# Altium schematic symbol library 10nF 1KV cap cer TH.SchLib: 1 symbol
Pins are listed as number, name and electrical type; pins without a type are passive.

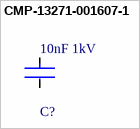
[diagram p0: symbol CMP-13271-001607-1]

## CMP-13271-001607-1
designator C?, comment 10nF 1kV
Cap Ceramic 10nF 1kV X7R ±10% SMD 1812 +125°C Embossed T/R; Length: 4.5mm; Height: 1.25mm; Dielectric: X7R; Radiation Hardening: No; Packaging: Tape and Reel; Thickness: 0.057inch; Case Code (Metric): 4532; Width: 0.126inch; Tolerance: 10%; Mount: Surface Mount; Case/Package: 1812; Min Operating Temperature: -55°C; Max Operating Temperature: 125°C; Depth: 3.2mm; Case Code (Imperial): 1812; Package Quantity: 1; Voltage Rating (DC): 1kV; Voltage Rating: 1kV; Capacitance: 10nF
footprint FP-RDE2M1-MFG
pins: 1, 2